# EAGLE library part HEADER-3X04 (library Adafruit PCA9685)
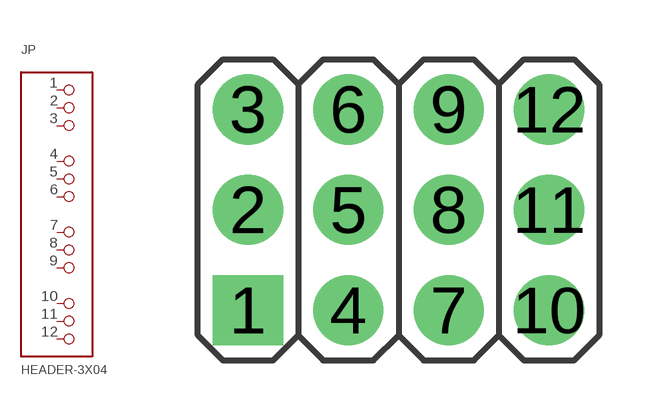
[diagram p1: symbol with the pads of 3X04; footprint 3X04]

Designator prefix JP

## HEADER-3X04  [3X04]
1  1  pas
2  2  pas
3  3  pas
4  4  pas
5  5  pas
6  6  pas
7  7  pas
8  8  pas
9  9  pas
10  10  pas
11  11  pas
12  12  pas

## Footprint 3X04 (pad centres in mm)
drill 1 pad 1.778 square: 1 -3.81,-2.54
drill 1 pad 1.778: 2 -3.81,0; 3 -3.81,2.54; 4 -1.27,-2.54; 5 -1.27,0; 6 -1.27,2.54; 7 1.27,-2.54; 8 1.27,0; 9 1.27,2.54; 10 3.81,-2.54; 11 3.81,0; 12 3.81,2.54